# Altium footprint library IRLML6344TRPBF.PcbLib: 3 footprints
Each footprint in its own frame and in the unit in brackets; x right, y up, seen from the top. Pads: shape width x height; smd on the part's side, far side on the other; paste and mask are expansions set on the pad; w line width, h text height; cw(c..) or ccw(c..) is an arc to the next point about the centre after c.
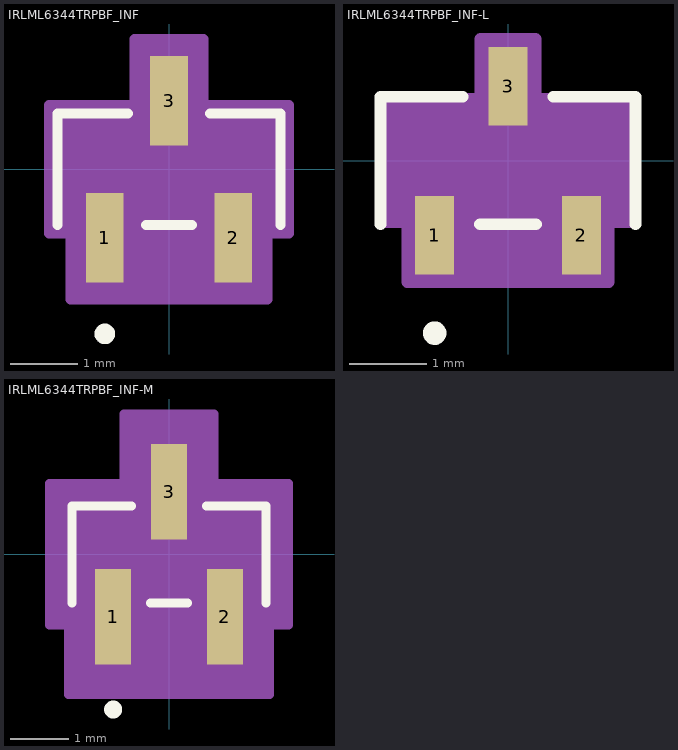
[diagram p0: the footprints below, top view; thin cyan lines are the x and y axes]

## IRLML6344TRPBF_INF [mil]
pads (3):
  rect 22x52 smd paste+0 mask+0: 1(-37.4,-39.97) 2(37.4,-39.97) 3(0,39.97)
Top Overlay:
  circle w6: c-37.4,-95.97 r3
  lines w6: -65,-32.5 -65,32.5 -24.1,32.5 ; -13.3,-32.5 13.3,-32.5 ; 24.1,32.5 65,32.5 65,-32.5
Mechanical 13:
  circle w0: c-37.4,-17.5 r3
  lines w1: -60,-27.5 -60,27.5 60,27.5 60,-27.5 -60,-27.5 ; -47.4,-51.97 -27.4,-51.97 -27.4,-27.5 -47.4,-27.5 -47.4,-51.97 ; -10,27.5 -10,51.97 10,51.97 10,27.5 -10,27.5 ; 27.4,-51.97 47.4,-51.97 47.4,-27.5 27.4,-27.5 27.4,-51.97
Mechanical 15:
  region: -70,-37.5 -70,37.5 -20,37.5 -20,75.97 20,75.97 20,37.5 70,37.5 70,-37.5 57.4,-37.5 57.4,-75.97 -57.4,-75.97 -57.4,-37.5
  lines w6: -70,-37.5 -57.4,-37.5 -57.4,-75.97 57.4,-75.97 57.4,-37.5 70,-37.5 70,37.5 20,37.5 20,75.97 -20,75.97 -20,37.5 -70,37.5 -70,-37.5
3D body: height 44.09, standoff 0, extent -60,-51.97 60,51.97

## IRLML6344TRPBF_INF-L [mil]
pads (3):
  rect 20x40 smd paste+0 mask+0: 1(-37.4,-37.97) 2(37.4,-37.97) 3(0,37.97)
Top Overlay:
  circle w6: c-37.4,-87.97 r3
  lines w6: -65,-32.5 -65,32.5 -23.1,32.5 ; -14.3,-32.5 14.3,-32.5 ; 23.1,32.5 65,32.5 65,-32.5
Mechanical 13:
  circle w0: c-37.4,-17.5 r3
  lines w1: -60,-27.5 60,-27.5 60,27.5 -60,27.5 -60,-27.5 ; -47.4,-51.97 -47.4,-27.5 -27.4,-27.5 -27.4,-51.97 -47.4,-51.97 ; -10,27.5 10,27.5 10,51.97 -10,51.97 -10,27.5 ; 27.4,-51.97 27.4,-27.5 47.4,-27.5 47.4,-51.97 27.4,-51.97
Mechanical 15:
  region: -64,-31.5 -64,31.5 -14,31.5 -14,61.97 14,61.97 14,31.5 64,31.5 64,-31.5 51.4,-31.5 51.4,-61.97 -51.4,-61.97 -51.4,-31.5
  lines w6: -64,-31.5 -64,31.5 -14,31.5 -14,61.97 14,61.97 14,31.5 64,31.5 64,-31.5 51.4,-31.5 51.4,-61.97 -51.4,-61.97 -51.4,-31.5 -64,-31.5
3D body: height 44.09, standoff 0, extent -60,-51.97 60,51.97

## IRLML6344TRPBF_INF-M [mil]
pads (3):
  rect 24x64 smd paste+0 mask+0: 1(-37.4,-41.97) 2(37.4,-41.97) 3(0,41.97)
Top Overlay:
  circle w6: c-37.4,-103.97 r3
  lines w6: -65,-32.5 -65,32.5 -25.1,32.5 ; -12.3,-32.5 12.3,-32.5 ; 25.1,32.5 65,32.5 65,-32.5
Mechanical 13:
  circle w0: c-37.4,-17.5 r3
  lines w1: -60,-27.5 -60,27.5 60,27.5 60,-27.5 -60,-27.5 ; -47.4,-51.97 -27.4,-51.97 -27.4,-27.5 -47.4,-27.5 -47.4,-51.97 ; -10,27.5 -10,51.97 10,51.97 10,27.5 -10,27.5 ; 27.4,-51.97 47.4,-51.97 47.4,-27.5 27.4,-27.5 27.4,-51.97
Mechanical 15:
  region: -80,-47.5 -80,47.5 -30,47.5 -30,93.97 30,93.97 30,47.5 80,47.5 80,-47.5 67.4,-47.5 67.4,-93.97 -67.4,-93.97 -67.4,-47.5
  lines w6: -80,-47.5 -67.4,-47.5 -67.4,-93.97 67.4,-93.97 67.4,-47.5 80,-47.5 80,47.5 30,47.5 30,93.97 -30,93.97 -30,47.5 -80,47.5 -80,-47.5
3D body: height 44.09, standoff 0, extent -60,-51.97 60,51.97